# EAGLE library part 74*595 (library ICs_74HC_Series)
8-Bit Shift Register (Serial to Parallel) Datasheet <http://cdn.sparkfun.com/datasheets/BreakoutBoards/MM74HC595.pdf> SparkFun Products SparkFun Shift Register Breakout - 74HC595 <https://www.sparkfun.com/products/10680> (BOB-10680)
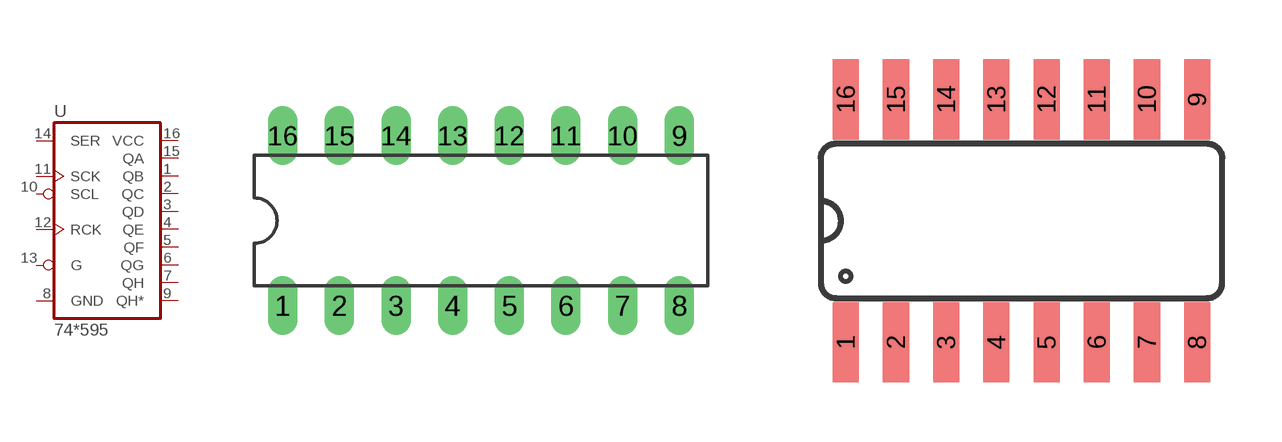
[diagram p1: symbol with the pads of 16-DIP; footprints 16-DIP, 16-SOIC]

Designator prefix U

## 74HC595N  [16-DIP]
1  QB  hiz
2  QC  hiz
3  QD  hiz
4  QE  hiz
5  QF  hiz
6  QG  hiz
7  QH  hiz
8  GND  pwr
9  QH*  hiz
10  SCL  in
11  SCK  in
12  RCK  in
13  G  in
14  SER  in
15  QA  hiz
16  VCC  pwr

## 74HC595D (PROD_ID: IC-07875; VALUE: SN74HC595D)  [16-SOIC]
Pads as for 16-DIP

## 74HC595PWR  [16-TSSOP]
Pads as for 16-DIP

## Footprint 16-DIP (pad centres in mm)
Dual In Line Package
drill 0.813 long: 1 0,0; 2 2.54,0; 3 5.08,0; 4 7.62,0; 5 10.16,0; 6 12.7,0; 7 15.24,0; 8 17.78,0; 9 17.78,7.62; 10 15.24,7.62; 11 12.7,7.62; 12 10.16,7.62; 13 7.62,7.62; 14 5.08,7.62; 15 2.54,7.62; 16 0,7.62

## Footprint 16-SOIC (pad centres in mm)
Small Outline package 150 mil
smd 0.66 x 2.032: 1 0,-0.025; 2 1.27,-0.025; 3 2.54,-0.025; 4 3.81,-0.025; 5 5.08,-0.025; 6 6.35,-0.025; 7 7.62,-0.025; 8 8.89,-0.025; 9 8.89,6.121; 10 7.62,6.121; 11 6.35,6.121; 12 5.08,6.121; 13 3.81,6.121; 14 2.54,6.121; 15 1.27,6.121; 16 0,6.121

## Footprint 16-TSSOP (pad centres in mm)
smd 0.3 x 1.6: 1 -0.004,-0.006; 2 0.646,-0.006; 3 1.296,-0.006; 4 1.946,-0.006; 5 2.596,-0.006; 6 3.246,-0.006; 7 3.896,-0.006; 8 4.546,-0.006; 9 4.546,5.594; 10 3.896,5.594; 11 3.246,5.594; 12 2.596,5.594; 13 1.946,5.594; 14 1.296,5.594; 15 0.646,5.594; 16 -0.004,5.594